# EAGLE library part HEF4027BP (library NXP_By_element14_Batch_1)
Dual JK flip-flop
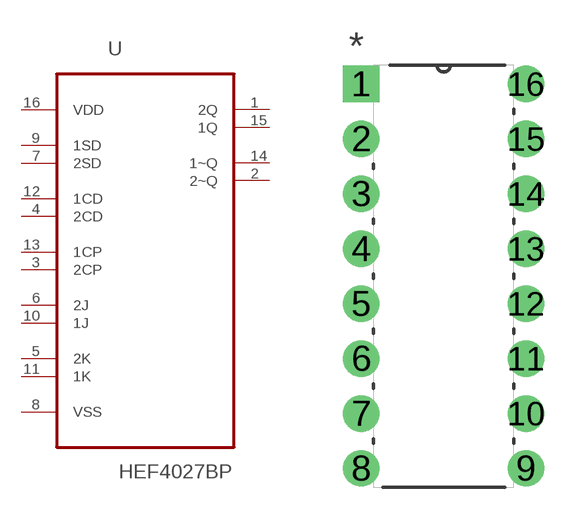
[diagram p248: symbol with the pads of DIP254P762X420-16; footprint DIP254P762X420-16]

Designator prefix U

## HEF4027BP (MPN: HEF4027BP; OC_FARNELL: 384938; OC_NEWARK: 10WX5421; PACKAGE: DIP-16; SUPPLIER: NXP)  [DIP254P762X420-16]
1  2Q  out
2  2~Q  out
3  2CP  in
4  2CD  in
5  2K  in
6  2J  in
7  2SD  in
8  VSS  pas
9  1SD  in
10  1J  in
11  1K  in
12  1CD  in
13  1CP  in
14  1~Q  out
15  1Q  out
16  VDD  pwr

## Footprint DIP254P762X420-16 (pad centres in mm)
drill 1.118 square: 1 -7.62,17.78
drill 1.118: 2 -7.62,15.24; 3 -7.62,12.7; 4 -7.62,10.16; 5 -7.62,7.62; 6 -7.62,5.08; 7 -7.62,2.54; 8 -7.62,0; 9 0,0; 10 0,2.54; 11 0,5.08; 12 0,7.62; 13 0,10.16; 14 0,12.7; 15 0,15.24; 16 0,17.78